# Altium schematic symbol library SCH - OPAMP - THS4561IDGKT.Schlib: 1 symbol
Pins are listed as number, name and electrical type; pins without a type are passive.

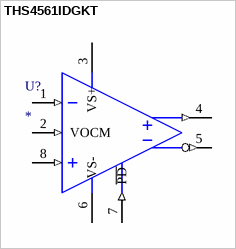
[diagram p0: symbol THS4561IDGKT]

## THS4561IDGKT
designator U?
Integrated Circuit
pins: 1 VIN- (in) "Noninverting amplifier input", 2 VOCM (in) "Common-mode voltage input", 3 VS+ (power) "Amplifier positive power-supply input", 4 VOUT+ (out) "Noninverting amplifier output", 5 VOUT- (out) "Inverting amplifier output", 6 VS- (power) "Amplifier negative power-supply input. Note that VS- is tied together on multi-channel devices.", 7 ~{PD} (in) "Power Down pin. PIN = logic high for normal operation. Logic low for disable", 8 VIN+ (in) "Inverting amplifier input"